# Altium footprint library NewSpeedRadar_Board.PcbLib: 49 footprints (part 1 of 4)
Each footprint in its own frame and in the unit in brackets; x right, y up, seen from the top. Pads: shape width x height; smd on the part's side, far side on the other; paste and mask are expansions set on the pad; w line width, h text height; cw(c..) or ccw(c..) is an arc to the next point about the centre after c.
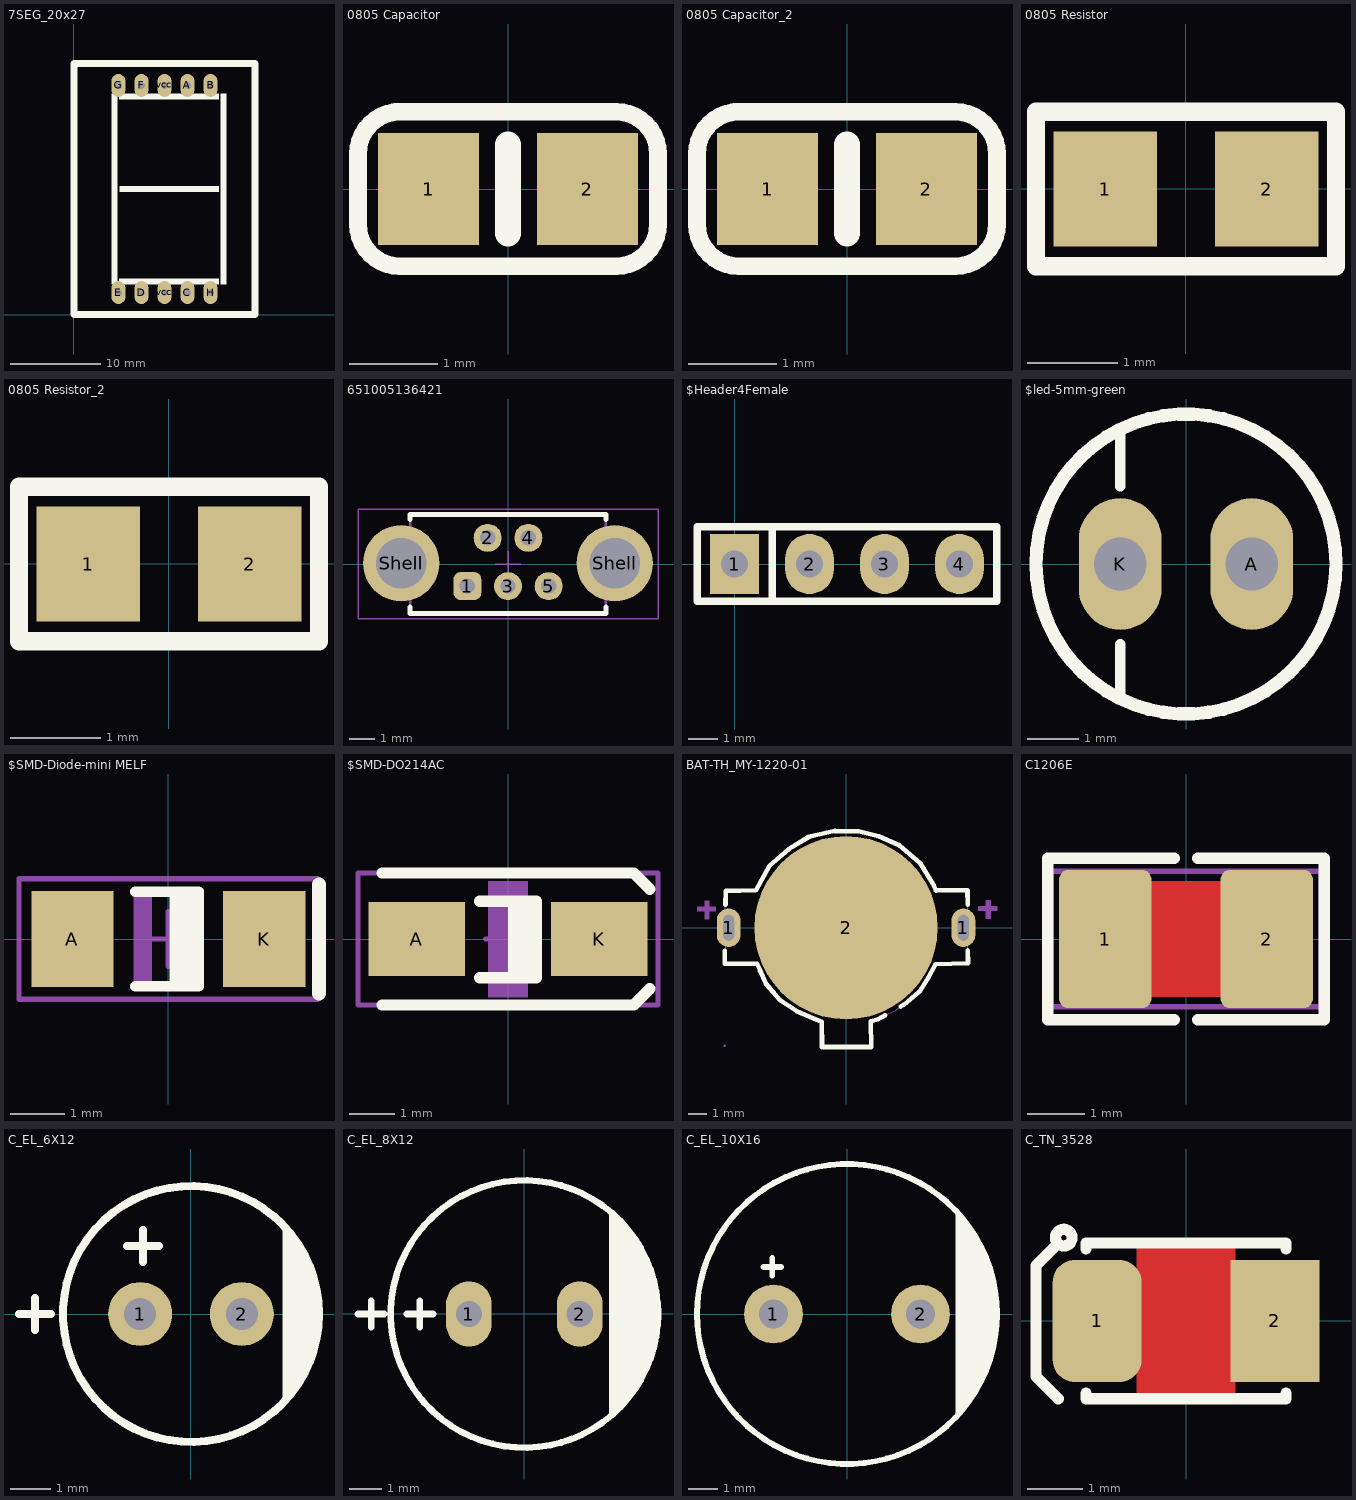
[diagram p0: the footprints below, top view; thin cyan lines are the x and y axes]

## 7SEG_20x27 [mm]
height 6.8
pads (10):
  oval 1.524x2.54 hole 0.762: A(12.54,25.28) B(15.08,25.28) C(12.54,2.42) D(7.46,2.42) E(4.92,2.42) F(7.46,25.28) G(4.92,25.28) H(15.08,2.42) vcc(10,2.42) vcc(10,25.28)
Top Overlay:
  rectangle: 5.023,13.533 16.023,14.168
  rectangle: 5,3.333 16,3.968
  region: 16.818,3.3 16.818,24.4 16.183,24.4 16.183,3.3
  region: 4.818,3.3 4.818,24.4 4.183,24.4 4.183,3.3
  rectangle: 5,23.733 16,24.368
  lines w0.762: 0,27.6 0.1,27.7 20,27.7 20,0 0,0 0,27.7

## 0805 Capacitor [mm]
height 7.62
pads (2):
  rect 1.143x1.27 smd: 1(-0.9,0) 2(0.9,0)
Top Overlay:
  lines w0.2: -1.275,0.875 1.225,0.875 cw(c1.225,0.4) 1.7,0.4 1.7,-0.4 cw(c1.225,-0.4) 1.225,-0.875 -1.225,-0.875 cw(c-1.225,-0.4) -1.7,-0.4 -1.7,0.4 cw(c-1.225,0.4) -1.225,0.875
  lines w0.3: 0,-0.5 0,0.5
3D body "SW3dPS-0805 SMD Capacitor.STEP": height 0.78, standoff 0, extent -1,-0.625 1,0.625

## 0805 Capacitor_2 [mm]
pads (2):
  rect 1.143x1.27 smd: 1(-0.9,0) 2(0.9,0)
Top Overlay:
  lines w0.2: -1.275,0.875 1.225,0.875 cw(c1.225,0.4) 1.7,0.4 1.7,-0.4 cw(c1.225,-0.4) 1.225,-0.875 -1.225,-0.875 cw(c-1.225,-0.4) -1.7,-0.4 -1.7,0.4 cw(c-1.225,0.4) -1.225,0.875
  lines w0.3: 0,-0.5 0,0.5
3D body "SW3dPS-0805 SMD Capacitor.STEP": height 0.78, standoff 0, extent -1,-0.625 1,0.625

## 0805 Resistor [mil]
height 300
pads (2):
  rect 45x50 smd: 1(-35,0) 2(35,0)
Top Overlay:
  lines w7.87: -65,-33.46 65,-33.46 65,33.46 -65,33.46 -65,-33.46
3D body "User Library-RESC2012X05N.STEP": height 17.76, standoff 0, extent -39.37,-24.61 39.37,24.6

## 0805 Resistor_2 [mil]
pads (2):
  rect 45x50 smd: 1(-35,0) 2(35,0)
Top Overlay:
  lines w7.87: -65,-33.46 65,-33.46 65,33.46 -65,33.46 -65,-33.46
3D body "User Library-RESC2012X05N.STEP": height 17.76, standoff 0, extent -39.36,-24.6 39.38,24.61

## 651005136421 [mm] "Mini USB 2.0 Type B Vertical 5 Contacts"
height 9.2
pads (7):
  rrect50% 1.1x1.1 hole 0.6: 1(-1.6,-0.87)
  round 1.1 hole 0.6: 2(-0.8,1.03) 3(0,-0.87) 4(0.8,1.03) 5(1.6,-0.87)
  round 3 hole 2: Shell(-4.2,0.03) Shell(4.2,0.03)
Top Overlay:
  lines w0.2: -3.85,-1.7 -3.85,-1.95 3.85,-1.95 3.85,-1.7 ; -3.85,1.75 -3.85,1.95 3.85,1.95 3.85,1.75
Top Component Outline:
  lines w0.1: -3.85,-1.95 -3.85,1.95 3.85,1.95 3.85,-1.95 -3.85,-1.95
Top 3D Body:
  lines w0.1: -3.85,-1.95 3.85,-1.95 3.85,1.95 -3.85,1.95 -3.85,-1.95
Top Courtyard:
  lines w0.05: -0.5,0 0.5,0 ; 0,-0.5 0,0.5 ; -5.9,-2.15 5.9,-2.15 5.9,2.15 -5.9,2.15 -5.9,-2.15
Top Designator:
  text ".Designator" at -7.498,-0.5 h1.5
3D body "651005136421.stp": height 9.4, standoff -2.6, extent -5.099,-1.92 5.099,1.98

## $Header4Female [mil]
height 93.7
pads (4):
  rect 65x80 hole 35.43: 1(0,0)
  oval 65x80 hole 35.43: 2(100,0) 3(200,0) 4(300,0)
Top Overlay:
  lines w10: 50,-50 50,50 ; -50,-50 350,-50 350,50 -50,50 -50,-50
3D body: height 350, standoff 0, extent -50,-50 350,50
3D body: height 300, standoff -100, extent -15,-15 15,15
3D body: height 300, standoff -100, extent 85,-15 115,15
3D body: height 300, standoff -100, extent 185,-15 215,15
3D body: height 300, standoff -100, extent 285,-15 315,15

## $led-5mm-green [mm]
height 2.38
pads (2):
  oval 1.6x2.54 hole 1.016: A(1.27,0) K(-1.27,0)
Top Overlay:
  circle w0.254: c0,0 r2.896
  lines w0.203: -1.27,-2.616 -1.27,-1.549 ; -1.27,1.499 -1.27,2.591
3D body "SW3dPS-LEDd5G.STEP": height 12.31, standoff -2.49, extent -2.456,-2.997 2.964,3.022

## $SMD-Diode-mini MELF [mil]
height 62.99
pads (2):
  rect 60x70 smd: A(-70,0) K(70,0)
Top Overlay:
  region: 22.56,34.45 0.91,34.45 0.91,-34.45 22.56,-34.45
  lines w7.87: -24,-34.45 22,-34.45 22,34.45 -24,34.45
  lines w10: 110,-40 110,40
Mechanical 2:
  rectangle: 11.81,-37.4 25.59,37.4
  region: -11.81,37.4 -25.59,37.4 -25.59,-37.4 -11.81,-37.4
Mechanical 15:
  lines w4: -20,0 20,0 ; 0,-20 0,20 ; -109.06,-44.09 109.06,-44.09 109.06,44.09 -109.06,44.09 -109.06,-44.09
3D body "User Library-SOD80C-1.STEP": height 63.78, standoff 0.79, extent -77.84,-33 67.83,30

## $SMD-DO214AC [mil]
height 93.7
pads (2):
  rect 85x65 smd: A(-80,0) K(80,0)
Top Overlay:
  region: 25,33 0,33 0,-34 25,-34
  lines w10: -110.24,-57.87 110.24,-57.87 124.41,-43.7 ; -110.24,57.87 110.24,57.87 124.41,43.7 ; -25,-34 25,-34 25,33 -25,33
Mechanical 2:
  region: 17.7,50.98 -17.74,50.98 -17.74,-51.38 17.7,-51.38
Mechanical 15:
  lines w4: -20,0 20,0 ; 0,-20 0,20 ; -131.5,-57.87 -131.5,57.87 131.5,57.87 131.5,-57.87 -131.5,-57.87
3D body "User Library-DO-214AC_SMA.STEP": height 85.69, standoff -0.97, extent -100.43,-53.03 96.42,53.26

## BAT-TH_MY-1220-01 [mm]
pads (3):
  oval 1.3x2.1 hole 0.6 slot 1.4 at 90 deg paste+0 mask+0.05: 1(-6.4,0) 1(6.4,0)
  round 10 smd paste-100 mask+0.05: 2(0,0)
Top Overlay:
  lines w0.254: -6.61,-1.256 -6.622,-1.961 -4.856,-1.974 -4.698,-2.295 -4.361,-3.054 -3.612,-3.943 -2.685,-4.552 -1.808,-4.933 -1.326,-5.136 -1.313,-6.508 1.367,-6.508 1.354,-5.098 1.76,-4.984 2.133,-4.774 ; -6.57,1.265 -6.558,1.988 ; -6.558,2.001 -4.92,2.039 -4.17,3.373 -3.129,4.287 -2.024,4.96 -0.602,5.278 0.694,5.265 1.786,4.986 2.903,4.49 4.046,3.512 4.77,2.344 4.91,2.026 6.625,2.039 6.63,1.251 ; 2.98,-4.297 3.157,-4.197 3.996,-3.498 4.466,-2.749 4.885,-1.987 6.65,-1.936 6.646,-1.246
Mechanical 6:
  region: -8.128,1.143 -7.112,1.143 -7.112,0.889 -8.128,0.889
  region: -7.465,1.477 -7.465,0.461 -7.719,0.461 -7.719,1.477
  region: 7.217,1.175 8.233,1.175 8.233,0.921 7.217,0.921
  region: 7.88,1.509 7.88,0.493 7.626,0.493 7.626,1.509
Mechanical 15:
  region: -6.549,-6.44 -6.549,-6.464 -6.584,-6.5 -6.634,-6.5 -6.669,-6.464 -6.669,-6.44 -6.669,-6.415 -6.634,-6.38 -6.584,-6.38 -6.549,-6.415 -6.549,-6.44
  region: 4.5,0 4.5,-0.295 4.423,-0.88 4.27,-1.45 4.045,-1.995 3.75,-2.505 3.39,-2.973 2.973,-3.39 2.505,-3.75 1.995,-4.045 1.45,-4.27 0.88,-4.423 0.295,-4.5 -0.295,-4.5 -0.88,-4.423 -1.45,-4.27 -1.995,-4.045 -2.505,-3.75 -2.973,-3.39 -3.39,-2.973 -3.75,-2.505 -4.045,-1.995 -4.27,-1.45 -4.423,-0.88 -4.5,-0.295 -4.5,0 -4.5,0.295 -4.423,0.88 -4.27,1.45 -4.045,1.995 -3.75,2.505 -3.39,2.973 -2.973,3.39 -2.505,3.75 -1.995,4.045 -1.45,4.27 -0.88,4.423 -0.295,4.5 0.295,4.5 0.88,4.423 1.45,4.27 1.995,4.045 2.505,3.75 2.973,3.39 3.39,2.973 3.75,2.505 4.045,1.995 4.27,1.45 4.423,0.88 4.5,0.295 4.5,0
  region: -6.5,0.5 -6.3,0.5 -6.3,-0.5 -6.5,-0.5
  region: 6.3,0.5 6.5,0.5 6.5,-0.5 6.3,-0.5
  lines w0.051: -6.609,2.015 -4.85,2.024 -4.596,2.589 -4.041,3.407 -3.411,4 -2.94,4.414 -2.197,4.781 -1.426,5.082 -1.021,5.166 -0.457,5.26 0.211,5.251 1.368,5.082 2.667,4.545 3.692,3.84 4.209,3.219 4.877,2.005 6.608,2.015 6.618,-1.993 4.877,-1.983 4.247,-3.084 3.73,-3.677 3.241,-4.128 2.685,-4.523 2.055,-4.787 1.35,-5.05 1.353,-6.416 -1.349,-6.44 -1.331,-5.078 -2.423,-4.655 -3.147,-4.232 -3.824,-3.611 -4.248,-3.103 -4.596,-2.538 -4.84,-1.974 -6.59,-1.983 -6.609,2.015

## C1206E [mm] "CHIP Capacitor, 3.2X1.6mm, 1206, EXPANDED PAD"
height 2
pads (2):
  rrect20% 1.6x2.4 smd mask+0.075: 1(-1.4,0) 2(1.4,0)
Top Layer:
  pour cut-out: -0.8,1 -0.8,-1 0.8,-1 0.8,1
Top Overlay:
  lines w0.2: -0.2,-1.4 -2.4,-1.4 -2.4,1.4 -0.2,1.4 ; 0.2,-1.4 2.4,-1.4 2.4,1.4 0.2,1.4
Mechanical 13:
  lines w0.1: -1.6,-0.8 1.6,-0.8 1.6,0.8 -1.6,0.8 -1.6,-0.8
Mechanical 15:
  lines w0.1: -0.5,0 0.5,0 ; 0,-0.5 0,0.5 ; -2.35,-1.175 2.35,-1.175 2.35,1.175 -2.35,1.175 -2.35,-1.175
3D body "User Library-CAPC3216X10.step": height 1, standoff 0, extent -1.6,-0.8 1.6,0.8

## C_EL_6X12 [mm] "Capacitor Electrolythic, D6.3X12H pitch: 2.5mm"
height 12
pads (2):
  round 1.6 hole 0.8: 1(-1.27,0) 2(1.27,0)
Top Overlay:
  circle w0.2: c0,0 r3.2
  region: 2.3,2.2 2.456,2.044 2.633,1.867 2.911,1.451 3.102,0.989 3.2,0.498 3.2,0.248 3.2,-0.248 3.2,-0.498 3.102,-0.989 2.911,-1.451 2.633,-1.867 2.456,-2.044 2.3,-2.2
  lines w0.2: -4.3,0 -3.5,0 ; -3.9,-0.4 -3.9,0.4 ; -1.6,1.7 -0.8,1.7 ; -1.2,1.3 -1.2,2.1
3D body "User Library-Cap-EL(6_3x12-2_5).step": height 1.2, standoff -14, extent -3.14,-3.095 3.162,3.201

## C_EL_8X12 [mm] "Capacitor Electrolythic, D8.0X12.0H pitch: 3.5mm"
height 12
pads (2):
  oval 1.4x2 hole 0.8: 1(-1.7,0) 2(1.7,0)
Top Overlay:
  circle w0.2: c0,0 r4.1
  region: 2.6,-3.172 2.775,-3.028 3.092,-2.703 3.371,-2.346 3.609,-1.959 3.803,-1.549 3.951,-1.12 4.05,-0.678 4.1,-0.227 4.1,0 2.6,0
  region: 2.6,3.172 2.775,3.028 3.092,2.703 3.371,2.346 3.609,1.959 3.803,1.549 3.951,1.12 4.05,0.678 4.1,0.227 4.1,0 2.6,0
  lines w0.2: -5.1,0 -4.3,0 ; -4.7,-0.4 -4.7,0.4 ; -3.6,0 -2.8,0 ; -3.2,-0.4 -3.2,0.4
3D body "User Library-Cap electro 8x11_5x3_5mm.step": height 2.98, standoff -12.53, extent -4.025,-4.025 4.025,4.025

## C_EL_10X16 [mm] "Capacitor Electrolythic, D10.0X16.0H pitch: 5.0mm"
height 16
pads (2):
  round 2 hole 1: 1(-2.5,0) 2(2.5,0)
Top Overlay:
  circle w0.2: c0,0 r5.1
  region: 3.7,-3.38 3.866,-3.214 4.164,-2.851 4.425,-2.46 4.646,-2.046 4.826,-1.612 4.962,-1.163 5.054,-0.702 5.1,-0.235 5.1,0 3.7,0
  region: 3.7,3.38 3.866,3.214 4.164,2.851 4.425,2.46 4.646,2.046 4.826,1.612 4.962,1.163 5.054,0.702 5.1,0.235 5.1,0 3.7,0
  lines w0.2: -2.84,1.6 -2.24,1.6 ; -2.54,1.3 -2.54,1.9
3D body "User Library-Cap-EL(10x16-5).step": height 16, standoff -3.3, extent -5,-4.996 5.002,4.996

## C_TN_3528 [mm] "CAPACITOR, TAN B, TAN H, TAN T, TAN M, 3528P, 1210P, 3.5X2.8mm"
height 1.1
pads (2):
  rrect50% 1.6x2.2 smd mask+0.1: 1(-1.6,0)
  rect 1.6x2.2 smd mask+0.1: 2(1.6,0)
Top Layer:
  pour cut-out: -0.889,1.4 -0.889,-1.4 0.889,-1.4 0.889,1.4
Top Overlay:
  circle w0.2: c-2.2,1.5 r0.15
  lines w0.2: -2.35,1.35 -2.7,1 -2.7,-1 -2.3,-1.4 ; -1.8,-1.3 -1.8,-1.4 1.8,-1.4 1.8,-1.3 ; -1.8,1.3 -1.8,1.4 1.8,1.4 1.8,1.3
3D body "User Library-AVX_BCASE.step": height 2.03, standoff 0, extent -1.85,-1.465 1.85,1.465